# EAGLE library part CD-PA1616D (library CD-PA1616D footprint)
Check availability <https://pricing.snapeda.com/parts/CD-PA1616D/CD%20Top/view-part?ref=eda>
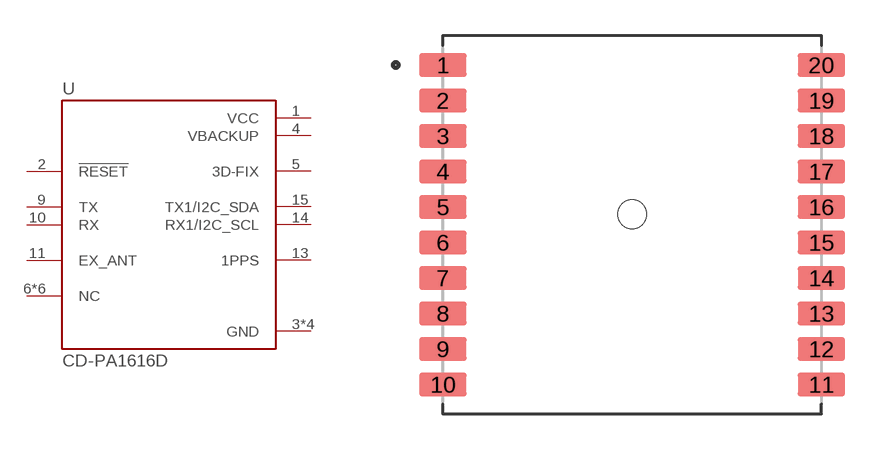
[diagram p0: symbol with the pads of XCVR_CD-PA1616D; footprint XCVR_CD-PA1616D]

Designator prefix U

## CD-PA1616D (Availability: Not in stock; Check_prices: https://www.snapeda.com/parts/CD-PA1616D/CD+Top/view-part/?ref=eda; Description: CD-PA1616DGNSS patch antenna module; MF: CD Top; MP: CD-PA1616D; Package: Package; Price: None; SnapEDA_Link: https://www.snapeda.com/parts/CD-PA1616D/CD+Top/view-part/?ref=snap)  [XCVR_CD-PA1616D]
1  VCC  pwr
2  !RESET  in
3  GND  pwr
4  VBACKUP  pwr
5  3D-FIX  out
6  NC  nc
7  NC  nc
8  GND  pwr
9  TX  out
10  RX  in
11  EX_ANT
12  GND  pwr
13  1PPS  out
14  RX1/I2C_SCL  in
15  TX1/I2C_SDA  out
16  NC  nc
17  NC  nc
18  NC  nc
19  GND  pwr
20  NC  nc

## Footprint XCVR_CD-PA1616D (pad centres in mm)
smd 2 x 1: 1 -8,6.75; 2 -8,5.25; 3 -8,3.75; 4 -8,2.25; 5 -8,0.75; 6 -8,-0.75; 7 -8,-2.25; 8 -8,-3.75; 9 -8,-5.25; 10 -8,-6.75; 11 8,-6.75; 12 8,-5.25; 13 8,-3.75; 14 8,-2.25; 15 8,-0.75; 16 8,0.75; 17 8,2.25; 18 8,3.75; 19 8,5.25; 20 8,6.75
hole 1.21 at 0,0.45